# EAGLE library part TPS61023DRLT (library TPS61023DRLT)
Switching Voltage Regulators 3-A boost converter with 0.5-V ultra-low input voltage 6-SOT-5X3 -40 to 125 Source: Datasheet <http://www.ti.com/general/docs/suppproductinfo.tsp?distId=10&gotoUrl=http://www.ti.com/lit/gpn/tps61023>
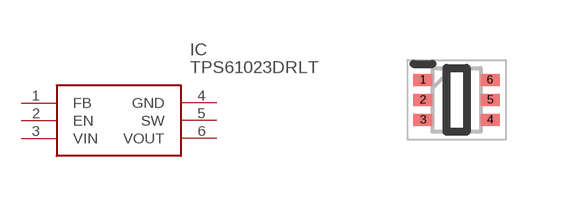
[diagram p0: symbol with the pads of SOTFL50P160X60-6N; footprint SOTFL50P160X60-6N]

Designator prefix IC

## TPS61023DRLT (Description: Switching Voltage Regulators 3-A boost converter with 0.5-V ultra-low input voltage 6-SOT-5X3 -40 to 125; Height: 0.6mm; Manufacturer_Name: Texas Instruments; Manufacturer_Part_Number: TPS61023DRLT; Mouser_Part_Number: 595-TPS61023DRLT; Mouser_Price-Stock: https://www.mouser.co.uk/ProductDetail/Texas-Instruments/TPS61023DRLT?qs=BJlw7L4Cy78Zr3IJIU3gNw%3D%3D)  [SOTFL50P160X60-6N]
1  FB
2  EN
3  VIN
4  GND
5  SW
6  VOUT

## Footprint SOTFL50P160X60-6N (pad centres in mm)
DRL0006A
smd 0.475 x 0.3: 1 -0.838,0.5; 2 -0.838,0; 3 -0.838,-0.5; 4 0.838,-0.5; 5 0.838,0; 6 0.838,0.5